# Altium footprint library mikroBUS_Add-on_standard.PcbLib: 3 footprints
Each footprint in its own frame and in the unit in brackets; x right, y up, seen from the top. Pads: shape width x height; smd on the part's side, far side on the other; paste and mask are expansions set on the pad; w line width, h text height; cw(c..) or ccw(c..) is an arc to the next point about the centre after c.
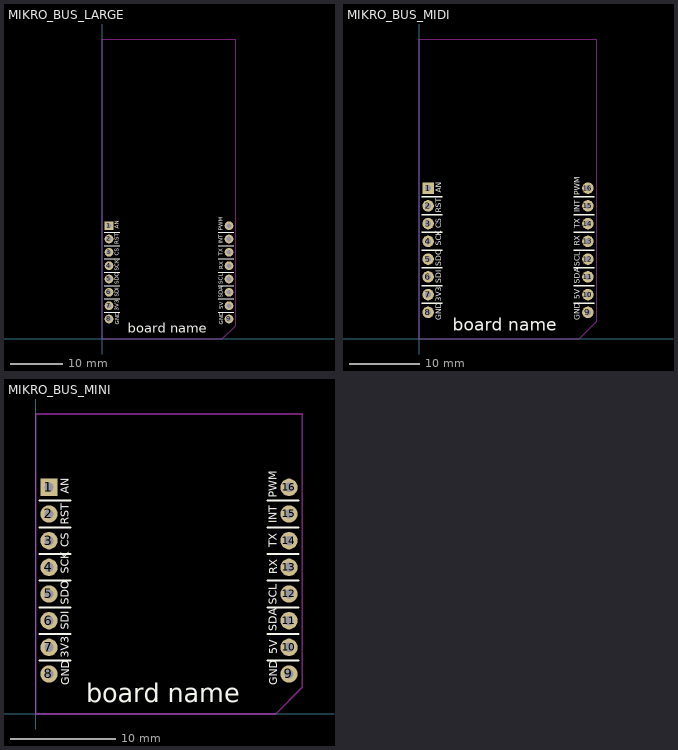
[diagram p0: the footprints below, top view; thin cyan lines are the x and y axes]

## MIKRO_BUS_LARGE [mil]
height 47.24
pads (16):
  rect 65x65 hole 35: 1(50,850)
  round 65 hole 35: 2(50,750) 3(50,650) 4(50,550) 5(50,450) 6(50,350) 7(50,250) 8(50,150) 9(950,150) 10(950,250) 11(950,350) 12(950,450) 13(950,550) 14(950,650) 15(950,750) 16(950,850)
Top Overlay:
  lines w8: 15,200 130,200 ; 15,300 130,300 ; 15,400 130,400 ; 15,500 130,500 ; 15,600 130,600 ; 15,700 130,700 ; 15,800 130,800 ; 870,200 985,200 ; 870,300 985,300 ; 870,400 985,400 ; 870,500 985,500 ; 870,600 985,600 ; 870,700 985,700 ; 870,800 985,800
  text "board name" at 190,20 h120
  text "PWM" at 905,810 h30
  text "CS" at 125,625 h30
  text "TX" at 905,625 h30
  text "RX" at 905,525 h30
  text "SCL" at 905,410 h30
  text "SDA" at 905,310 h30
  text "GND" at 905,107 h30
  text "SDO" at 125,410 h30
  text "RST" at 125,710 h30
  text "INT" at 905,715 h30
  text "SCK" at 125,510 h30
  text "AN" at 125,825 h30
  text "SDI" at 125,315 h30
  text "5V" at 905,225 h30
  text "3V3" at 125,210 h30
  text "GND" at 125,107 h30
Bottom Overlay:
  lines w8: 3,100 100,100 100,900 3,900 ; 997,100 900,100 900,900 997,900
  text "SCK" at 230,530 h35
  text "AN" at 200,830 h35
  text "TX" at 860,630 h35
  text "RX" at 860,530 h35
  text "5V" at 860,230 h35
  text "GND" at 860,130 h35
  text "PWM" at 860,830 h35
  text "RST" at 230,730 h35
  text "SDA" at 860,330 h35
  text "SDO" at 230,430 h35
  text "3V3" at 230,230 h35
  text "GND" at 233,130 h35
  text "CS" at 195,630 h35
  text "SDI" at 220,330 h35
  text "INT" at 860,730 h35
  text "SCL" at 860,430 h35
Keep-Out Layer:
  lines w6: 0,0 900,0 1000,100 1000,2250 0,2250 0,0
3D body: height 81.88, standoff -398.04, extent 892.52,100 1007.48,400
3D body: height 81.88, standoff -398.04, extent -7.96,100 107,400
3D body: height 81.88, standoff -398.04, extent 892.52,400 1007.48,900
3D body: height 81.88, standoff -398.04, extent -7.96,400 107,900

## MIKRO_BUS_MIDI [mil]
height 47.24
pads (16):
  rect 65x65 hole 35: 1(50,850)
  round 65 hole 35: 2(50,750) 3(50,650) 4(50,550) 5(50,450) 6(50,350) 7(50,250) 8(50,150) 9(950,150) 10(950,250) 11(950,350) 12(950,450) 13(950,550) 14(950,650) 15(950,750) 16(950,850)
Top Overlay:
  lines w8: 15,200 130,200 ; 15,300 130,300 ; 15,400 130,400 ; 15,500 130,500 ; 15,600 130,600 ; 15,700 130,700 ; 15,800 130,800 ; 870,200 985,200 ; 870,300 985,300 ; 870,400 985,400 ; 870,500 985,500 ; 870,600 985,600 ; 870,700 985,700 ; 870,800 985,800
  text "PWM" at 905,810 h30
  text "CS" at 125,625 h30
  text "TX" at 905,625 h30
  text "RX" at 905,525 h30
  text "SCL" at 905,410 h30
  text "SDA" at 905,310 h30
  text "GND" at 905,107 h30
  text "SDO" at 125,410 h30
  text "RST" at 125,710 h30
  text "INT" at 905,715 h30
  text "SCK" at 125,525 h30
  text "AN" at 125,825 h30
  text "SDI" at 125,315 h30
  text "5V" at 905,225 h30
  text "3V3" at 125,210 h30
  text "GND" at 125,107 h30
  text "board name" at 190,20 h120
Bottom Overlay:
  lines w8: 3,100 100,100 100,900 3,900 ; 997,100 900,100 900,900 997,900
  text "SCK" at 230,530 h35
  text "AN" at 200,830 h35
  text "TX" at 860,630 h35
  text "RX" at 860,530 h35
  text "5V" at 860,230 h35
  text "GND" at 860,130 h35
  text "PWM" at 860,830 h35
  text "RST" at 230,730 h35
  text "SDA" at 860,330 h35
  text "SDO" at 230,430 h35
  text "3V3" at 230,230 h35
  text "GND" at 233,130 h35
  text "CS" at 195,630 h35
  text "SDI" at 220,330 h35
  text "INT" at 860,730 h35
  text "SCL" at 860,430 h35
Keep-Out Layer:
  lines w6: 0,0 900,0 1000,100 1000,1690 0,1690 0,0
3D body: height 81.88, standoff -398.04, extent 892.52,100 1007.48,400
3D body: height 81.88, standoff -398.04, extent -7.96,100 107,400
3D body: height 81.88, standoff -398.04, extent 892.52,400 1007.48,900
3D body: height 81.88, standoff -398.04, extent -7.96,400 107,900

## MIKRO_BUS_MINI [mil]
height 47.24
pads (16):
  rect 65x65 hole 35: 1(50,850)
  round 65 hole 35: 2(50,750) 3(50,650) 4(50,550) 5(50,450) 6(50,350) 7(50,250) 8(50,150) 9(950,150) 10(950,250) 11(950,350) 12(950,450) 13(950,550) 14(950,650) 15(950,750) 16(950,850)
Top Overlay:
  lines w8: 15,200 130,200 ; 15,300 130,300 ; 15,400 130,400 ; 15,500 130,500 ; 15,600 130,600 ; 15,700 130,700 ; 15,800 130,800 ; 870,200 985,200 ; 870,300 985,300 ; 870,400 985,400 ; 870,500 985,500 ; 870,600 985,600 ; 870,700 985,700 ; 870,800 985,800
  text "GND" at 125,107 h30
  text "3V3" at 125,210 h30
  text "5V" at 905,225 h30
  text "SDI" at 125,315 h30
  text "AN" at 125,825 h30
  text "SCK" at 125,525 h30
  text "INT" at 905,715 h30
  text "RST" at 125,710 h30
  text "SDO" at 125,410 h30
  text "GND" at 905,107 h30
  text "SDA" at 905,310 h30
  text "SCL" at 905,410 h30
  text "RX" at 905,525 h30
  text "TX" at 905,625 h30
  text "CS" at 125,625 h30
  text "PWM" at 905,810 h30
  text "board name" at 190,20 h120
Bottom Overlay:
  lines w8: 3,100 100,100 100,900 3,900 ; 997,100 900,100 900,900 997,900
  text "SCL" at 860,430 h35
  text "INT" at 860,730 h35
  text "SDI" at 220,330 h35
  text "CS" at 195,630 h35
  text "GND" at 233,130 h35
  text "3V3" at 230,230 h35
  text "SDO" at 230,430 h35
  text "SDA" at 860,330 h35
  text "RST" at 230,730 h35
  text "PWM" at 860,830 h35
  text "GND" at 860,130 h35
  text "5V" at 860,230 h35
  text "RX" at 860,530 h35
  text "TX" at 860,630 h35
  text "AN" at 200,830 h35
  text "SCK" at 230,530 h35
Keep-Out Layer:
  lines w6: 0,0 0,1125 1000,1125 1000,100 900,0 0,0
3D body: height 81.88, standoff -398.04, extent -7.96,400 107,900
3D body: height 81.88, standoff -398.04, extent 892.52,400 1007.48,900
3D body: height 81.88, standoff -398.04, extent -7.96,100 107,400
3D body: height 81.88, standoff -398.04, extent 892.52,100 1007.48,400